# Altium footprint library CAPPOL8x12mm.PcbLib: 1 footprints
Each footprint in its own frame and in the unit in brackets; x right, y up, seen from the top. Pads: shape width x height; smd on the part's side, far side on the other; paste and mask are expansions set on the pad; w line width, h text height; cw(c..) or ccw(c..) is an arc to the next point about the centre after c.
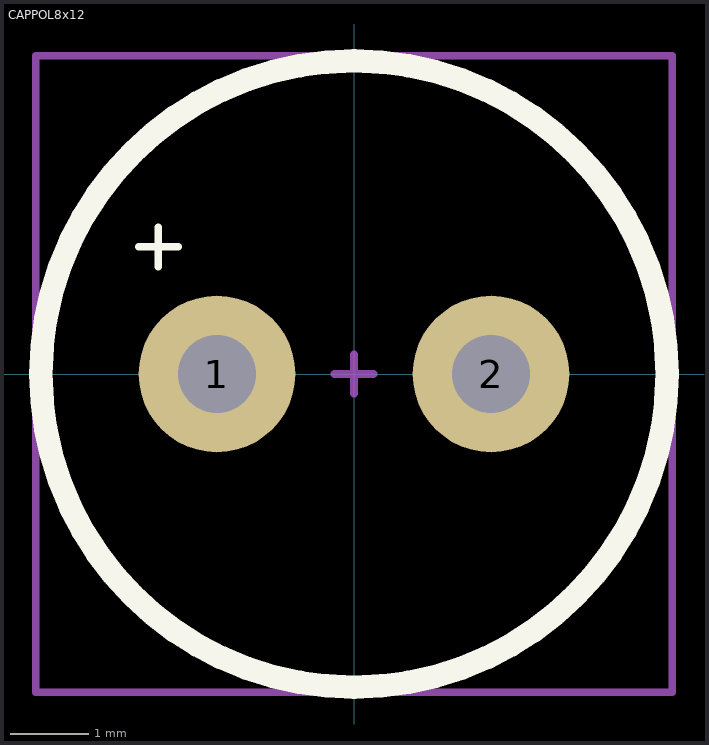
[diagram p0: the footprint, top view; thin cyan lines are the x and y axes]

## CAPPOL8x12 [mm]
height 0.95
pads (2):
  round 2 hole 1: 1(-1.75,0) 2(1.75,0)
Top Overlay:
  circle w0.3: c0,0 r4
  lines w0.1: -2.75,1.625 -2.25,1.625 ; -2.5,1.375 -2.5,1.875
Top Assembly:
  lines w0.1: -0.25,0 0.25,0 ; 0,-0.25 0,0.25 ; -4.064,-4.064 4.064,-4.064 4.064,4.064 -4.064,4.064 -4.064,-4.064
  text "'.Designator'" at 0,0 h0.7
3D body "CapPol8x12.stp": height 12, standoff 0, extent -4,-3.997 4,3.997